# EAGLE library part AD9833BRM (library Zoli2_2015-01-28)
25MHz DDS signal generator
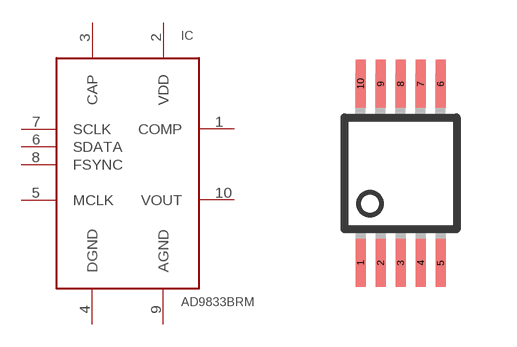
[diagram p5: symbol with the pads of MSOP10; footprint MSOP10]

Designator prefix IC

## AD9833BRM  [MSOP10]
1  COMP  pas
2  VDD  pwr
3  CAP  pas
4  DGND  pwr
5  MCLK  in
6  SDATA  in
7  SCLK  in
8  FSYNC  in
9  AGND  pwr
10  VOUT  out

## Footprint MSOP10 (pad centres in mm)
10-Lead Mini Small Outline Package [MSOP] (RM-10) Source: http://www.analog.com/UploadedFiles/Data_Sheets/35641221898805SSM2167_b.pdf COMPLIANT TO JEDEC STANDARDS MO-187BA
smd 0.25 x 1.2: 1 -1,-2.24; 2 -0.5,-2.24; 3 0,-2.24; 4 0.5,-2.24; 5 1,-2.24; 6 1,2.24; 7 0.5,2.24; 8 0,2.24; 9 -0.5,2.24; 10 -1,2.24